# EAGLE library part SI4599 (library svBGC)
Vishay Siliconix N- and P-Channel 40-V (D-S) MOSFET
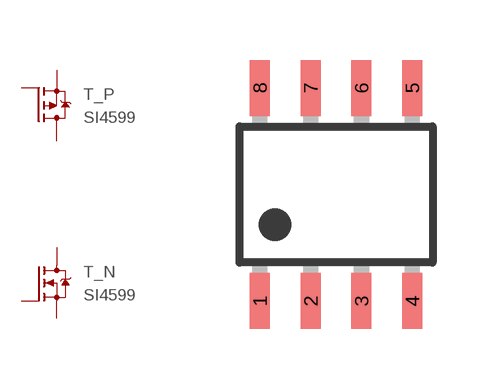
[diagram p8: symbol with the pads of SOIC-8; footprint SOIC-8]

Designator prefix T; gates _P=P-CHANNEL _N=N-CHANNEL

## SI4599  [SOIC-8]
1  _N:N-S  pas
2  _N:N-G  pas
3  _P:P-S  pas
4  _P:P-G  pas
5  _P:P-D  pas
6  _P:P-D  pas
7  _N:N-D  pas
8  _N:N-D  pas

## Footprint SOIC-8 (pad centres in mm)
SOIC-8 150 mil Package
smd 0.5 x 1.4: 1 -1.905,-2.667; 2 -0.635,-2.667; 3 0.635,-2.667; 4 1.905,-2.667; 5 1.905,2.667; 6 0.635,2.667; 7 -0.635,2.667; 8 -1.905,2.667